# EAGLE library part ESP-07/12 (library ESP-12E)
Version 1.0 of the library for the ESP-07/12 full GPIO dev board module byME Jon jonnyradu@gmail.com
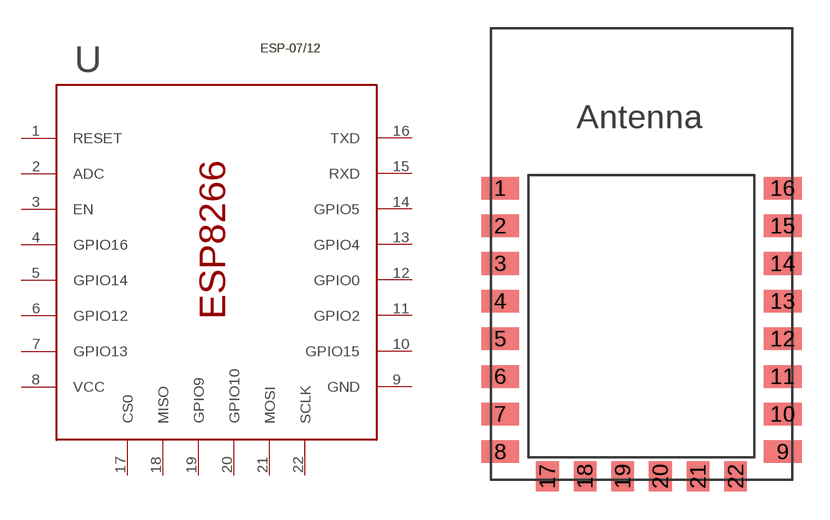
[diagram p0: symbol with the pads of ESP-12E; footprint ESP-12E]

Designator prefix -

## ESP-07/12  [ESP-12E]
1  RESET
2  ADC
3  EN
4  GPIO16
5  GPIO14
6  GPIO12
7  GPIO13
8  VCC
9  GND
10  GPIO15
11  GPIO2
12  GPIO0
13  GPIO4
14  GPIO5
15  RXD
16  TXD
17  CS0
18  MISO
19  GPIO9
20  GPIO10
21  MOSI
22  SCLK

## Footprint ESP-12E (pad centres in mm)
smd 2 x 1.2: 1 -7.5,6.5; 2 -7.5,4.5; 3 -7.5,2.5; 4 -7.5,0.5; 5 -7.5,-1.5; 6 -7.5,-3.5; 7 -7.5,-5.5; 8 -7.5,-7.5; 9 7.5,-7.5; 10 7.5,-5.5; 11 7.5,-3.5; 12 7.5,-1.5; 13 7.5,0.5; 14 7.5,2.5; 15 7.5,4.5; 16 7.5,6.5
smd 1.2 x 1.6: 17 -5,-8.8; 18 -3,-8.8; 19 -1,-8.8; 20 1,-8.8; 21 3,-8.8; 22 5,-8.8